# Altium schematic symbol library Testpoint,Hook,SMD.Schlib: 1 symbol
Pins are listed as number, name and electrical type; pins without a type are passive.

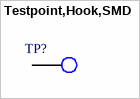
[diagram p0: symbol Testpoint,Hook,SMD]

## Testpoint,Hook,SMD
designator TP?  (value not drawn)
PC Test Point Plating Surface Mount Mounting Type
pins: 1 TP